# EAGLE library part RCLAMP0504P.TCT (library semtech-quad-clamp-tvs-RCLAMP0504P.TCT)
RailClamp Low-Capacitance TVS Array Semtech RCLAMP0504P.TCT, Quad Uni-Directional TVS Diode Array, 150W, 6-Pin SLP EP Source: Datasheet <https://datasheet.datasheetarchive.com/originals/distributors/Datasheets-30/DSA-588587.pdf>
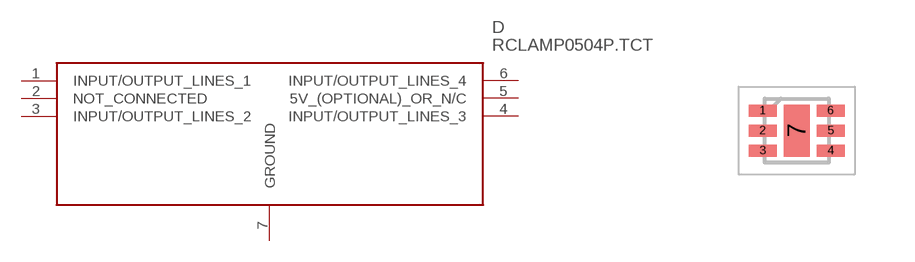
[diagram p0: symbol with the pads of SON50P160X160X65-7N; footprint SON50P160X160X65-7N]

Designator prefix D

## RCLAMP0504P.TCT (Arrow_Part_Number: RCLAMP0504P.TCT; Arrow_Price-Stock: https://www.arrow.com/en/products/rclamp0504p.tct/semtech; Description: RailClamp Low-Capacitance TVS Array Semtech RCLAMP0504P.TCT, Quad Uni-Directional TVS Diode Array, 150W, 6-Pin SLP EP; Height: 0.65mm; Manufacturer_Name: SEMTECH; Manufacturer_Part_Number: RCLAMP0504P.TCT; Mouser_Part_Number: 947-RCLAMP0504P.TCT; Mouser_Price-Stock: https://www.mouser.co.uk/ProductDetail/Semtech/RCLAMP0504P.TCT?qs=rBWM4%252BvDhIcENW0v60uWhA%3D%3D)  [SON50P160X160X65-7N]
1  INPUT/OUTPUT_LINES_1
2  NOT_CONNECTED
3  INPUT/OUTPUT_LINES_2
4  INPUT/OUTPUT_LINES_3
5  5V_(OPTIONAL)_OR_N/C
6  INPUT/OUTPUT_LINES_4
7  GROUND

## Footprint SON50P160X160X65-7N (pad centres in mm)
SLP1616P6
smd 0.7 x 0.3: 1 -0.85,0.5; 2 -0.85,0; 3 -0.85,-0.5; 4 0.85,-0.5; 5 0.85,0; 6 0.85,0.5
smd 0.65 x 1.3: 7 0,0